# EAGLE library part MX25R3235FM1IH0 (library ModuleCarrier-ISM4334X-M4G-L44)
Serial Flash 32 Mb 80 Mhz
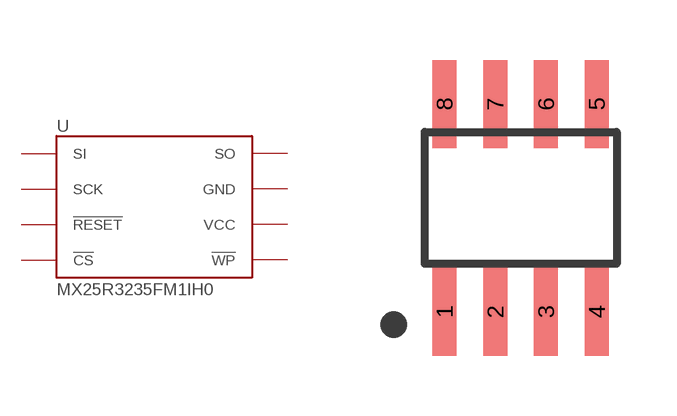
[diagram p6: symbol with the pads of SO8; footprint SO8]

Designator prefix U

## MX25R3235FM1IH0 (MF: Macronix; MFN: MX25R3235FM2IH0; OC-DIGIKEY: 1092-1174-ND)  [SO8]
1  !CS
2  SO
3  !WP
4  GND
5  SI
6  SCK
7  !RESET
8  VCC

## Footprint SO8 (pad centres in mm)
smd 0.6 x 2.2: 1 -1.905,-2.6; 2 -0.635,-2.6; 3 0.635,-2.6; 4 1.905,-2.6; 5 1.905,2.6; 6 0.635,2.6; 7 -0.635,2.6; 8 -1.905,2.6